# Altium footprint library PDV-P9203.PcbLib: 1 footprints
Each footprint in its own frame and in the unit in brackets; x right, y up, seen from the top. Pads: shape width x height; smd on the part's side, far side on the other; paste and mask are expansions set on the pad; w line width, h text height; cw(c..) or ccw(c..) is an arc to the next point about the centre after c.
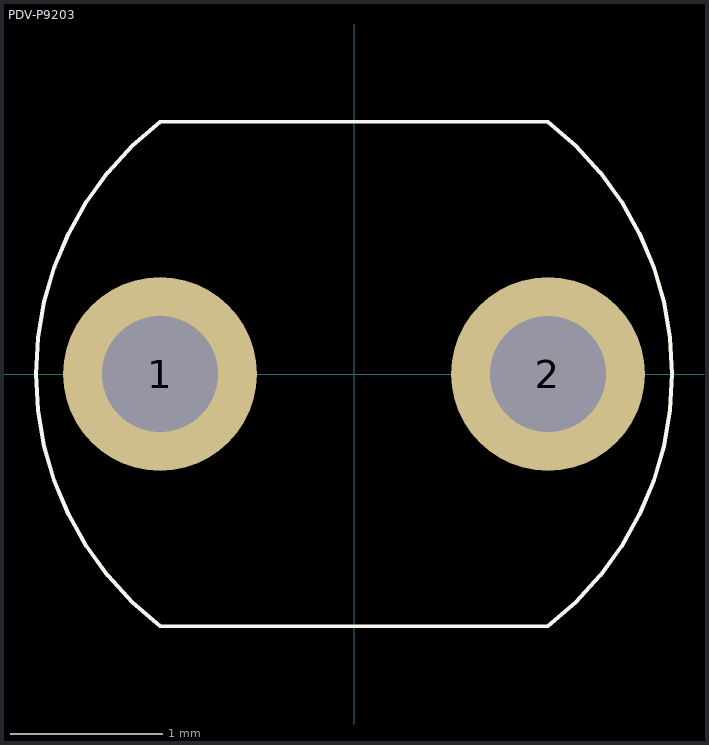
[diagram p0: the footprint, top view; thin cyan lines are the x and y axes]

## PDV-P9203 [mil]
pads (2):
  round 50 hole 30: 1(-50,0) 2(50,0)
TopOverlay:
  lines w1: -50,-65 cw(c0,0) -50,65 50,65 cw(c0,0) 50,-65 -50,-65